# EAGLE library part COCO-CART (library CoCoEPROMpak)
Tandy/TRS-80 Color Computer Cartridge Connector
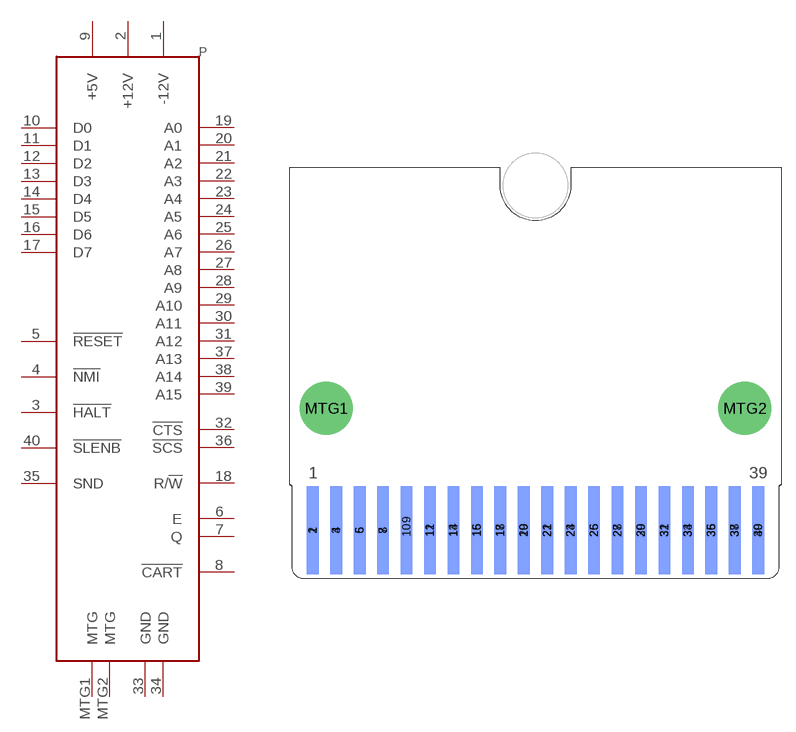
[diagram p0: symbol with the pads of COCO-CART-2.1X1.75; footprint COCO-CART-2.1X1.75]

Designator prefix P

## COCO-CART  [COCO-CART-2.1X1.75]
1  -12V  pas
2  +12V  pas
3  !HALT
4  !NMI
5  !RESET
6  E  out
7  Q  out
8  !CART  in
9  +5V  pas
10  D0
11  D1
12  D2
13  D3
14  D4
15  D5
16  D6
17  D7
18  R/!W  out
19  A0  out
20  A1  out
21  A2  out
22  A3  out
23  A4  out
24  A5  out
25  A6  out
26  A7  out
27  A8  out
28  A9  out
29  A10  out
30  A11  out
31  A12  out
32  !CTS  out
33  GND  pas
34  GND  pas
35  SND
36  !SCS  out
37  A13  out
38  A14  out
39  A15  out
40  !SLENB  in
MTG1  MTG  pas
MTG2  MTG  pas

## Footprint COCO-CART-2.1X1.75 (pad centres in mm)
Color Computer Cartridge, 2.1" x 1.75" Edge connector with PCB outline for Tandy/TRS-80 Color Computer cartridge slot: Width is 2.1"; full width of edge connector without grounding ears. Length is 1.75"; suitable for a simple ROM cartridge. With mounting holes and keepouts for installation in Program Pak housing.
smd 1.27 x 9.525: 1 2.54,5.207; 3 5.08,5.207; 5 7.62,5.207; 7 10.16,5.207; 11 15.24,5.207; 13 17.78,5.207; 15 20.32,5.207; 17 22.86,5.207; 19 25.4,5.207; 21 27.94,5.207; 23 30.48,5.207; 25 33.02,5.207; 27 35.56,5.207; 29 38.1,5.207; 31 40.64,5.207; 33 43.18,5.207; 35 45.72,5.207; 37 48.26,5.207; 39 50.8,5.207
smd 1.27 x 9.525 bottom: 2 2.54,5.207; 4 5.08,5.207; 6 7.62,5.207; 8 10.16,5.207; 10 12.7,5.207; 12 15.24,5.207; 14 17.78,5.207; 16 20.32,5.207; 18 22.86,5.207; 20 25.4,5.207; 22 27.94,5.207; 24 30.48,5.207; 26 33.02,5.207; 28 35.56,5.207; 30 38.1,5.207; 32 40.64,5.207; 34 43.18,5.207; 36 45.72,5.207; 38 48.26,5.207; 40 50.8,5.207
smd 1.27 x 6.985: 9 12.7,6.35
drill 3.607 pad 5.715: MTG1 4,18.415; MTG2 49.34,18.415